# Altium footprint library 2.84-mSATA 固态硬盘插座.PcbLib: 1 footprints
Each footprint in its own frame and in the unit in brackets; x right, y up, seen from the top. Pads: shape width x height; smd on the part's side, far side on the other; paste and mask are expansions set on the pad; w line width, h text height; cw(c..) or ccw(c..) is an arc to the next point about the centre after c.
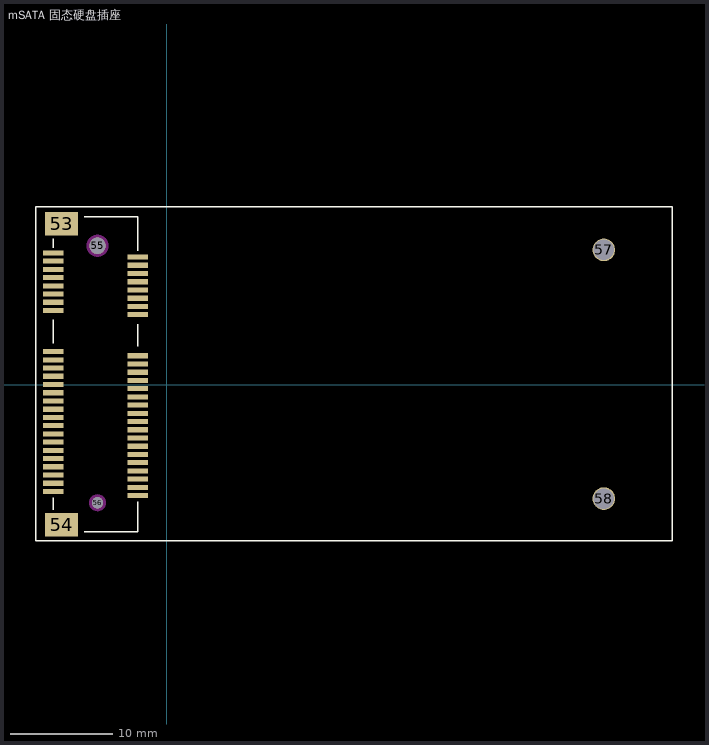
[diagram p0: the footprint, top view; thin cyan lines are the x and y axes]

## mSATA 固态硬盘插座 [mm] "封装库来自淘宝卖家 ID：黄晶宝石"
pads (58):
  rect 2x0.5 smd: 1(-11.049,12.827) 2(-2.849,12.427) 3(-11.049,12.027) 4(-2.849,11.627) 5(-11.049,11.227) 6(-2.849,10.827) 7(-11.049,10.427) 8(-2.849,10.027) 9(-11.049,9.627) 10(-2.849,9.227) 11(-11.049,8.827) 12(-2.849,8.427) 13(-11.049,8.027) 14(-2.849,7.627) 15(-11.049,7.227) 16(-2.849,6.827) 17(-11.049,3.227) 18(-2.849,2.827) 19(-11.049,2.427) 20(-2.849,2.027) 21(-11.049,1.627) 22(-2.849,1.227) 23(-11.049,0.827) 24(-2.849,0.427) 25(-11.049,0.027) 26(-2.849,-0.373) 27(-11.049,-0.773) 28(-2.849,-1.173) 29(-11.049,-1.573) 30(-2.849,-1.973) 31(-11.049,-2.373) 32(-2.849,-2.773) 33(-11.049,-3.173) 34(-2.849,-3.573) 35(-11.049,-3.973) 36(-2.849,-4.373) 37(-11.049,-4.773) 38(-2.849,-5.173) 39(-11.049,-5.573) 40(-2.849,-5.973) 41(-11.049,-6.373) 42(-2.849,-6.773) 43(-11.049,-7.173) 44(-2.849,-7.573) 45(-11.049,-7.973) 46(-2.849,-8.373) 47(-11.049,-8.773) 48(-2.849,-9.173) 49(-11.049,-9.573) 50(-2.849,-9.973) 51(-11.049,-10.373) 52(-2.849,-10.773)
  rect 3.2x2.3 smd: 53(-10.249,15.677) 54(-10.249,-13.623)
  round 1.6 hole 1.6 unplated: 55(-6.749,13.527)
  round 1.1 hole 1.1 unplated: 56(-6.749,-11.473)
  round 2.2 hole 2: 57(42.501,13.127)
  round 2.2 / inner round 2.2 / far side round 2 hole 2: 58(42.501,-11.073)
Top Overlay:
  lines w0.127: -11.049,-12.173 -11.049,-10.973 ; -11.049,4.027 -11.049,6.327 ; -11.049,13.352 -11.049,14.192 ; -8.049,-14.273 -2.849,-14.273 -2.849,-11.373 ; -8.049,16.327 -2.849,16.327 -2.849,13.037 ; -2.849,3.748 -2.849,5.9 ; -12.749,-15.173 -12.749,17.327 49.151,17.327 49.151,-15.173 -12.749,-15.173
Keep-Out Layer:
  drawing of 2 lines, arcs and shapes, not listed